# EAGLE library part MAGIC-DONUT (library magic-donut)
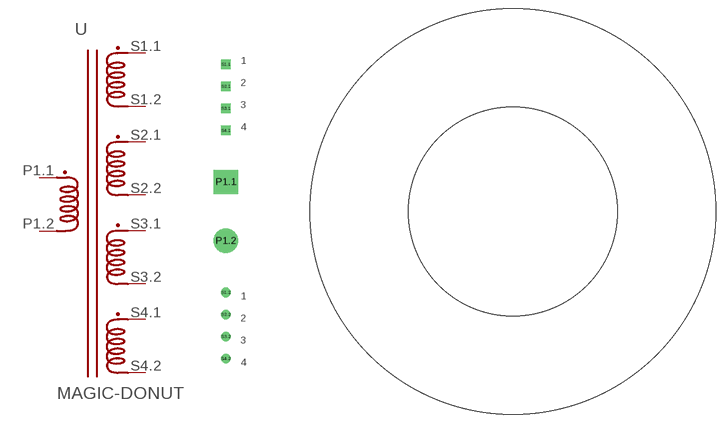
[diagram p0: symbol with the pads of TOROID; footprint TOROID]

Designator prefix -

## MAGIC-DONUT  [TOROID]
P1.1  P1.1  pas
P1.2  P1.2  pas
S1.1  S1.1  pas
S1.2  S1.2  pas
S2.1  S2.1  pas
S2.2  S2.2  pas
S3.1  S3.1  pas
S3.2  S3.2  pas
S4.1  S4.1  pas
S4.2  S4.2  pas

## Footprint TOROID (pad centres in mm)
drill 3.2 square: P1.1 -49.53,5.08
drill 3.2: P1.2 -49.53,-5.08
drill 1.1 square: S1.1 -49.53,25.4; S2.1 -49.53,21.59; S3.1 -49.53,17.78; S4.1 -49.53,13.97
drill 1.1: S1.2 -49.53,-13.97; S2.2 -49.53,-17.78; S3.2 -49.53,-21.59; S4.2 -49.53,-25.4